# Altium schematic symbol library TFTdisplay.SchLib: 1 symbol
Pins are listed as number, name and electrical type; pins without a type are passive.

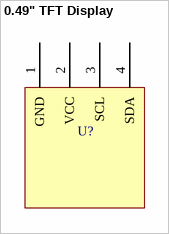
[diagram p0: symbol 0.49" TFT Display]

## 0.49" TFT Display
designator U?
0.49" TFT display (https://www.amazon.com/HiLetgo-SSD1306-Display-Module-Screen/dp/B0CDWXFCN2/ref=sr_1_3?crid=1BAJLTXOOL98M&dib=eyJ2IjoiMSJ9._lJSad_dY7TUacpevb6vvJg15XXTdVhd7W4ncS9jcM_04r_Rwn4j2QrzK_vKUAXBP8vwl6doM54_vEHR3OLxQ0wfh8mA8LY12kYPAqJuby5UCtfJgxtJG64XS-gf3ZfA0zNvX044rtUZcyHzm8lONspFIzNlcpKduMtdbusdFML1w4NqpY08vU51NJMEAIlwwYd4-2ZTe8_Ke2IMb9OEbTNtC23DgF2Ske0LQdUNKX4.eJIgGDS1Ex3mTOQd0JWFMcVLWLxPsgve9Jf2eTfEoaM&dib_tag=se&keywords=0.49+Inch+OLED+Display+LCD+Module+White+0.49%22+Screen+64x32+I2C+IIC+Interface+SSD1306+Driver+for+Arduino+AVR+STM32&qid=1751107518&sprefix=0.49+inch+oled+display+lcd+module+white+0.49+screen+64x32+i2c+iic+interface+ssd1306+driver+for+arduino+avr+stm32%2Caps%2C264&sr=8-3)
pins: 1 GND, 2 VCC, 3 SCL, 4 SDA